# EAGLE library part MICROSD-CARD-RECEPT (library PiB_connectors)
SD Card Readers General collection of SD Card Readers. All pretty much adapt from the basic model of an SD or MMC card.
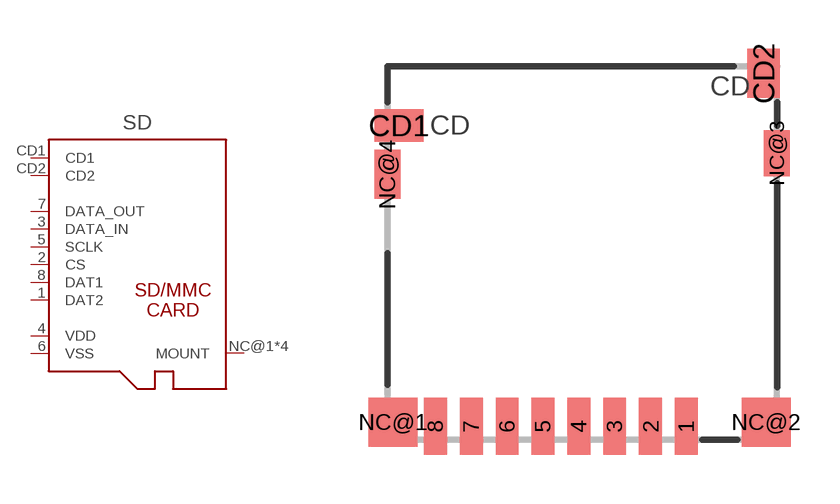
[diagram p10: symbol with the pads of SD-READER-1140084168; footprint SD-READER-1140084168]

Designator prefix SD

## MICROSD-CARD-RECEPT_READER_PUSH-PULL_AMPHENOL (CREATOR: Kenmei; DATASHEET: https://www.amphenolcanada.com/ProductSearch/drawings/AC/1140084168.pdf; DIST: Digikey; DISTLINK: https://www.digikey.com/product-detail/en/amphenol-commercial-products/114-00841-68/114-00841-68-1-ND/2187101; DISTPN: 114-00841-68-1-ND; MFR: Amphenol Commercial Products; MPN: 114-00841-68; TESTED: NO)  [SD-READER-1140084168]
1  DAT2
2  CS
3  DATA_IN
4  VDD
5  SCLK
6  VSS
7  DATA_OUT
8  DAT1
CD1  CD1
CD2  CD2
NC@1  MOUNT
NC@2  MOUNT
NC@3  MOUNT
NC@4  MOUNT

## Footprint SD-READER-1140084168 (pad centres in mm)
smd 0.7 x 1.75: 1 9.175,-11.038; 6 3.675,-11.038
smd 0.701 x 1.753: 2 8.075,-11.038; 8 1.475,-11.038
smd 0.701 x 1.752: 3 6.975,-11.038; 4 5.875,-11.038; 5 4.775,-11.038; 7 2.575,-11.038
smd 1.5 x 1: CD1 0.355,-1.813
smd 1.001 x 1.502: CD2 11.55,-0.213
smd 1.501 x 1.501: NC@1 0.175,-10.913
smd 1.502 x 1.502: NC@2 11.625,-10.913
smd 0.8 x 1.401: NC@3 11.95,-2.663
smd 0.801 x 1.501: NC@4 0,-3.313